# Altium schematic symbol library Schematic Diagrams.SchLib: 350 symbols (part 6 of 9)
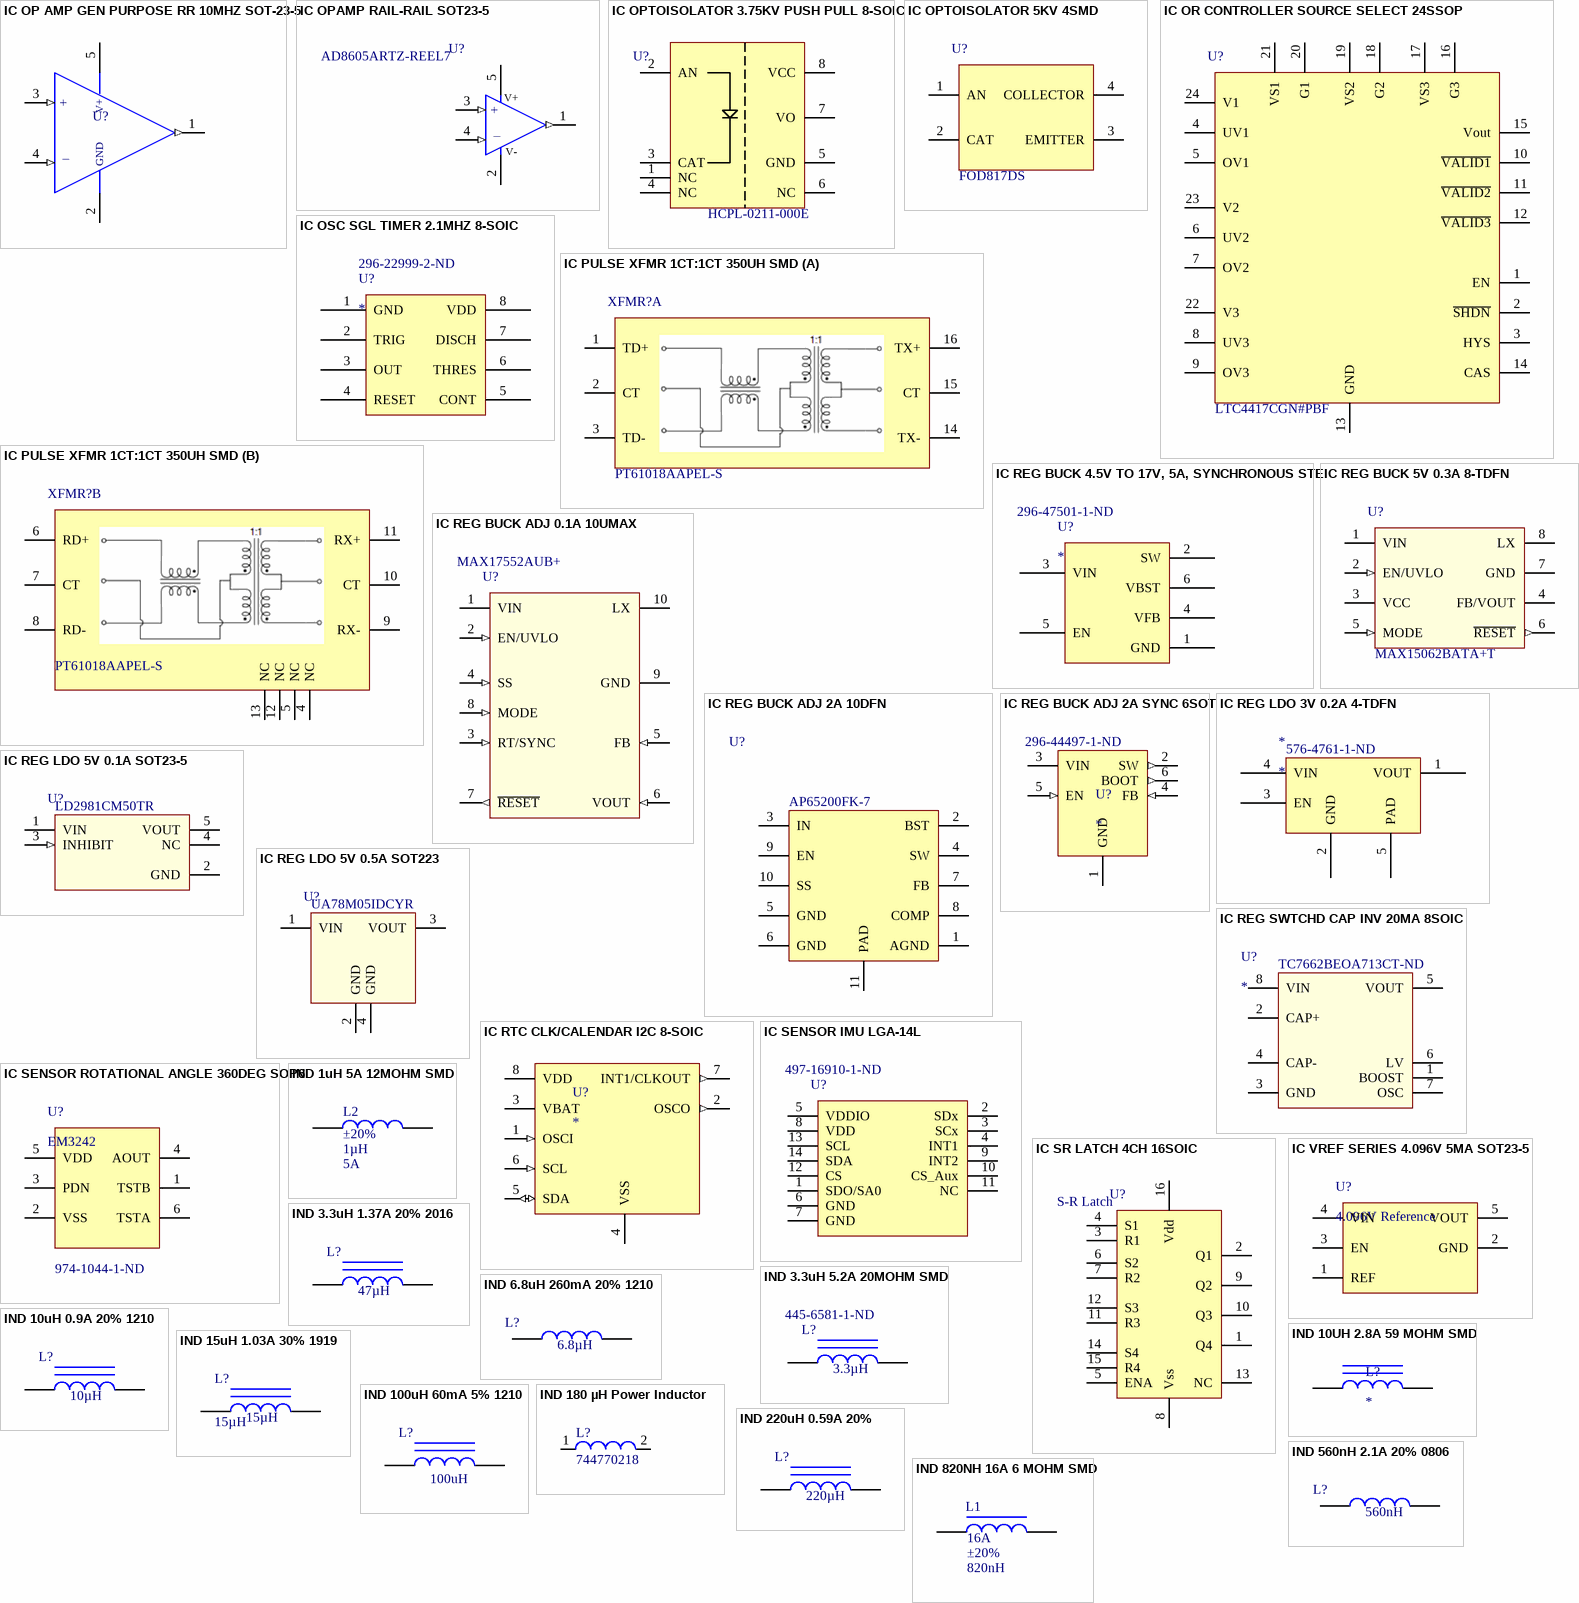
[diagram p16: symbols IC OP AMP GEN PURPOSE RR 10MHZ SOT-23-5 to IND 820NH 16A 6 MOHM SMD]

## IC SENSOR ROTATIONAL ANGLE 360DEG SOP6
designator U?, comment EM3242  Supplier Part Number 1: 974-1044-1-ND
Hall Effect Sensor Angle External Magnet, Not Included SMD (SMT) Tab; Manufacturer: AKM Semiconductor; Supplier 1: Digi-Key; Manufacturer Part Number: EM3242; Stock 1: 17913; Pricing 1: 1=4.79, 5=4.224, 10=3.731, 25=3.0272, 50=2.6752, 100=2.6048, 500=2.1824, 1000=2.0416 (USD); Mount: Surface Mount; Min Operating Temperature: -30°C; Max Operating Temperature: 85°C; Package Quantity: 5000; Termination: SMD/SMT; Sensing Method: Hall Effect; ComponentLink1URL: https://datasheet.ciiva.com/2812/em-324220ver-097-2812049.pdf; ComponentLink1Description: https://datasheet.ciiva.com/2812/em-324220ver-097-2812049.pdf; ComponentLink2URL: https://datasheet.ciiva.com/2812/em3242-2812050.pdf; ComponentLink2Description: https://datasheet.ciiva.com/2812/em3242-2812050.pdf; ComponentLink3URL: https://datasheet.ciiva.com/2812/em3242-2812051.pdf; ComponentLink3Description: https://datasheet.ciiva.com/2812/em3242-2812051.pdf
footprint IC SENSOR ROTATIONAL ANGLE 360DEG SOP6 (TSOP, 6-Leads, Body 3.60x3.00mm, Pitch 1.00mm, IPC Medium Density)
pins: 1 TSTB, 2 VSS, 3 PDN, 4 AOUT, 5 VDD, 6 TSTA

## IC SR LATCH 4CH 16SOIC
designator U?  Logic Type: S-R Latch
S-R Latch 4 Channel 1:1 IC Tri-State 16-TSSOP; Manufacturer 1: Texas Instruments; Manufacturer Part Number 1: CD4043BDR; Voltage - Supply: 3 V ~ 18 V; Delay Time - Propagation: 50ns; Current - Output High, Low: 6.8mA, 6.8mA; Supplier 1: Digi-Key; Supplier Part Number 1: 296-31496-1-ND; Packaging: Cut Tape (CT); Part Status: Active; Circuit: 1:1; Output Type: Tri-State; Operating Temperature: -55°C ~ 125°C; Mounting Type: Surface Mount; Package / Case: 16-SOIC (0.154", 3.90mm Width); Supplier Device Package: 16-SOIC; ComponentLink1URL: http://www.ti.com/lit/ds/symlink/cd4043b.pdf; ComponentLink1Description: http://www.ti.com/lit/ds/symlink/cd4043b.pdf
footprint IC, SR Latch, CD4043BDR (SR LATCH)
pins: 1 Q4, 2 Q1, 3 R1, 4 S1, 5 ENA, 6 S2, 7 R2, 8 Vss, 9 Q2, 10 Q3, 11 R3, 12 S3, 13 NC, 14 S4, 15 R4, 16 Vdd

## IC VREF SERIES 4.096V 5MA SOT23-5
designator U?, comment 4.096V Reference
Series Voltage Reference IC ±0.2% 5mA SOT-23-5; Manufacturer 1: Texas Instruments; Manufacturer Part Number 1: LM4120AIM5-4.1/NOPB; Description 1: IC VREF SERIES 4.096V SOT23-5; Output Type: Fixed; Temperature Coefficient: 50ppm/°C; Noise - 0.1Hz to 10Hz: 20µVp-p; Noise - 10Hz to 10kHz: 36µVp-p; Voltage - Input: 2 V ~ 12 V; Current - Supply: 275µA; Supplier 1: Digi-Key; Supplier Part Number 1: LM4120AIM5-4.1/NOPBCT-ND; RoHS: RoHS Compliant; Category: Integrated Circuits (ICs); Stock 1: 10567; Pricing 1: 1=2.93, 10=2.633, 100=2.1166, 500=1.73892 (CAD); Packaging: Cut Tape (CT); Part Status: Active; Reference Type: Series; Voltage - Output (Min/Fixed): 4.096V; Tolerance: ±0.2%; Operating Temperature: -40°C ~ 85°C (TA); Mounting Type: Surface Mount; Package / Case: SC-74A, SOT-753; Supplier Device Package: SOT-23-5; ComponentLink1URL: http://www.ti.com/lit/ds/symlink/lm4120.pdf; ComponentLink1Description: http://www.ti.com/lit/ds/symlink/lm4120.pdf
footprint IC OP AMP GP RR 10MHZ SOT-23-5 (SOT23, 5-Leads, Body 2.90x2.80mm, Pitch 0.95mm, IPC Medium Density)
pins: 1 REF, 2 GND, 3 EN, 4 VIN, 5 VOUT

## IND 1uH 5A 12MOHM SMD
designator L2, comment Tolerance: ±20%  Inductance: 1µH  Current Rating (Amps): 5A  (hidden comment: IND 1UH 5A 12MOHM SMD)
1µH Semi-Shielded Wirewound Inductor 5A 12mOhm Nonstandard; Manufacturer 1: Bourns Inc.; Manufacturer Part Number 1: SRN5040TA-1R0M; Current - Saturation: 7.5A; Shielding: Semi-Shielded; DC Resistance (DCR): 12mOhm; Mounting Type: Surface Mount; Package / Case: Nonstandard; Supplier 1: Digi-Key; Supplier Part Number 1: SRN5040TA-1R0MCT-ND
footprint IND 1UH 5A 12MOHM SMD (IND 1UH 5A 12MOHM SMD -Semi-shielded)
pins: 1, 2

## IND 3.3uH 1.37A 20% 2016
designator L?  Inductance: 47µH
3.3µH Shielded Wirewound Inductor 1.37A 170 mOhm Max Nonstandard; Manufacturer: TDK Corporation; Manufacturer Part Number: VLS201612CX-3R3M; Material - Core: Ferrite; Tolerance: ±20%; Current - Saturation: 1.04A; Frequency - Test: 1MHz; Supplier 1: Digi-Key; Supplier Part Number 1: 445-172964-1-ND; RoHS: RoHS Compliant; Category: Inductors, Coils, Chokes; Stock 1: 4000; Pricing 1: 1=0.43, 10=0.387, 50=0.3014, 100=0.2798, 500=0.24538, 1000=0.19803 (USD); Packaging: Cut Tape (CT); Type: Wirewound; Current Rating: 1.37A; Shielding: Shielded; DC Resistance (DCR): 170 mOhm Max; Q @ Freq: -; Frequency - Self Resonant: -; Operating Temperature: -40°C ~ 105°C; Mounting Type: Surface Mount; Package / Case: Nonstandard; Size / Dimension: 0.079" L x 0.063" W (2.00mm x 1.60mm); Height - Seated (Max): 0.047" (1.20mm); Supplier Device Package: 2016; ComponentLink1URL: http://product.tdk.com/en/catalog/datasheets/inductor_commercial_power_vls-cx_en.pdf; ComponentLink1Description: http://product.tdk.com/en/catalog/datasheets/inductor_commercial_power_vls-cx_en.pdf
footprint 445-172964-1-ND
pins: 1, 2

## IND 3.3uH 5.2A 20MOHM SMD
designator L?  Inductance: 3.3µH  Supplier Part Number 1: 445-6581-1-ND
3.3µH Shielded Wirewound Inductor 5.2A 20 mOhm Max Nonstandard; Manufacturer: TDK Corporation; Manufacturer Part Number: VLS201612CX-3R3M; Material - Core: Ferrite; Tolerance: ±20%; Current Rating: 1.37A; Current - Saturation: 1.04A; DC Resistance (DCR): 170 mOhm Max; Frequency - Test: 1MHz; Inductance Tolerance: 30%; Test Frequency: 100kHz; RoHS: RoHS Compliant; Category: Inductors, Coils, Chokes; Packaging: Cut Tape (CT); Type: Wirewound; Shielding: Shielded; Q @ Freq: -; Frequency - Self Resonant: -; Operating Temperature: -40°C ~ 105°C; Mounting Type: Surface Mount; Package / Case: Nonstandard; Size / Dimension: 0.079" L x 0.063" W (2.00mm x 1.60mm); Height - Seated (Max): 0.047" (1.20mm); Supplier Device Package: 2016; ComponentLink1URL: http://product.tdk.com/en/catalog/datasheets/inductor_commercial_power_vls-cx_en.pdf; ComponentLink1Description: http://product.tdk.com/en/catalog/datasheets/inductor_commercial_power_vls-cx_en.pdf; Supplier 1: Digi-Key; Stock 1: 8114; Pricing 1: 1 = 0.60000, 10 = 0.52700, 100 = 0.37660, 500 = 0.31636 (USD); Mount: Surface Mount; Case/Package: Nonstandard; Core Material: Ferrite; Min Operating Temperature: -40°C; Max Operating Temperature: 105°C; Package Quantity: 1; Saturation Current: 5.2A; Max DC Current: 5.2A; Termination: SMD/SMT; Composition: Wirewound; RMS Current (Irms): 5.2A; Military Standard: Not; Length: 0.315inch; Height: 4mm; Width: 8mm; Depth: 8.7mm; REACH SVHC: No SVHC; Lead Free: Lead Free; ComponentLink2URL: http://www.mouser.com/ds/2/400/nductor_commercial_power_vlp8040_en-952627.pdf; ComponentLink2Description: http://www.mouser.com/ds/2/400/nductor_commercial_power_vlp8040_en-952627.pdf
footprint IND 3.3UH 5.2A 20 MOHM SMD VLP8040 (IND 3.3UH 5.2A 20 MOHM SMD)
pins: 1, 2

## IND 6.8uH 260mA 20% 1210
designator L?  Inductance: 6.8µH
6.8µH Shielded Wirewound Inductor 260mA 204 mOhm Max 1210 (3225 Metric); Manufacturer 1: TDK Corporation; Manufacturer Part Number 1: NLFV32T-6R8M-EF; Material - Core: Ferrite; Tolerance: ±20%; Supplier 1: Digi-Key; Supplier Part Number 1: 445-15776-1-ND; Packaging: Cut Tape (CT); Part Status: Active; Type: Wirewound; Current Rating: 260mA; Current - Saturation: -; Shielding: Shielded; DC Resistance (DCR): 204 mOhm Max; Q @ Freq: -; Frequency - Self Resonant: -; Ratings: -; Operating Temperature: -40°C ~ 105°C; Mounting Type: Surface Mount; Package / Case: 1210 (3225 Metric); Supplier Device Package: 1210 (3225 Metric); Size / Dimension: 0.126" L x 0.098" W (3.20mm x 2.50mm); Height - Seated (Max): 0.094" (2.40mm); ComponentLink1URL: https://product.tdk.com/info/en/catalog/datasheets/inductor_commercial_decoupling_nlfv32-ef_en.pdf; ComponentLink1Description: https://product.tdk.com/info/en/catalog/datasheets/inductor_commercial_decoupling_nlfv32-ef_en.pdf
footprint NLFV32T-6R8M-EF/IND 6.8uH
pins: 1, 2

## IND 10uH 0.9A 20% 1210
designator L?  Inductance: 10µH
10µH Shielded Wirewound Inductor 900mA 420 mOhm Max 1210 (3225 Metric); Manufacturer: Murata Electronics North America; Manufacturer Part Number: 1277AS-H-100M=P2; Tolerance: ±20%; Current Rating: 0.9A; Current - Saturation: 1.25A; Supplier 1: Digi-Key; Supplier Part Number 1: 490-10589-1-ND; Type: Wirewound; Shielding: Shielded; DC Resistance (DCR): 420 mOhm Max; Height - Seated (Max): 0.047" (1.20mm); ComponentLink1URL: http://www.toko.co.jp/products-murata/pdf/inductors/m_dfe322512c.pdf; ComponentLink1Description: datasheet
footprint 1210
pins: 1, 2

## IND 10UH 2.8A 59 MOHM SMD
designator L?
10µH Shielded Inductor 2.8A 59 mOhm Max Nonstandard; Manufacturer: Sumida; Manufacturer Part Number: CDRH103RNP-100NC-B; Core Material: Ferrite; Tolerance: 30%; Saturation Current: 3.18A; Inductance: 10uh; DC Resistance (DCR): 59mR; Test Frequency: 100kHz; Supplier 1: Digi-Key; Stock 1: 69; Pricing 1: 1=1.53, 10=1.42, 100=1.027, 500=0.7866 (USD); Mount: Surface Mount; Case/Package: Nonstandard; Min Operating Temperature: -40°C; Max Operating Temperature: 100°C; Packaging: Tape and Reel; Package Quantity: 1000; Current Rating: 2.8A; Shielding: Shielded; Max DC Current: 2.8A; Termination: SMD/SMT; Length: 0.402inch; Height: 3.1mm; Width: 0.394inch; Height - Seated (Max): 0.122inch; Depth: 10.3mm; Radiation Hardening: No; Lead Free: Lead Free; ComponentLink1URL: http://www.mouser.com/ds/2/390/CDRH103R-523372.pdf; ComponentLink1Description: http://www.mouser.com/ds/2/390/CDRH103R-523372.pdf; ComponentLink2URL: http://www.sumida.com/products/pdf/CDRH103R.pdf; ComponentLink2Description: http://www.sumida.com/products/pdf/CDRH103R.pdf; ComponentLink3URL: http://products.sumida.com/products/pdf/CDRH103R.pdf; ComponentLink3Description: http://products.sumida.com/products/pdf/CDRH103R.pdf; Supplier Part Number 1: 308-1910-1-ND
footprint INDP100102X31N (Precision Wire Wound Inductor, 2-Leads, Body 10.00x10.20mm, IPC Medium Density)
pins: 1, 2

## IND 15uH 1.03A 30% 1919
designator L?, comment 15µH
15µH Shielded Wirewound Inductor 1.03A 220 mOhm Max 1919 (4848 Metric); Manufacturer: Bourns Inc.; Manufacturer Part Number: SRR4018-150Y; Tolerance: ±30%; Current - Saturation: 820mA; Supplier 1: Digi-Key; Supplier Part Number 1: SRR4018-150YCT-ND; Type: Wirewound; Current Rating: 1.03A; DC Resistance (DCR): 20 mOhm Max; Height - Seated (Max): 0.079" (2.00mm); Inductance: 15µH
footprint IND_BOURNS_SRR40
pins: 1, 2

## IND 100uH 60mA 5% 1210
designator L?  value 100uH
100µH Unshielded Wirewound Inductor 60mA 11 Ohm Max 1210 (3225 Metric); Manufacturer: EPCOS (TDK); Manufacturer Part Number: B82422T1104J000; Material - Core: Ferrite; Tolerance: ±5%; Q @ Freq: 20 @ 796kHz; Supplier 1: Digi-Key; RoHS: RoHS Compliant; Category: Inductors, Coils, Chokes; Stock 1: 4846; Pricing 1: 1=0.65, 10=0.568, 100=0.4062, 500=0.3412, 1000=0.27621 (CAD); Packaging: Cut Tape (CT); Part Status: Active; Type: Wirewound; Shielding: Unshielded; DC Resistance (DCR): 11 Ohm Max; Ratings: AEC-Q200; Operating Temperature: -55°C ~ 125°C; Mounting Type: Surface Mount; Package / Case: 1210 (3225 Metric); Supplier Device Package: 1210 (3225 Metric); Size / Dimension: 0.126" L x 0.098" W (3.20mm x 2.50mm); Height - Seated (Max): 0.083" (2.10mm); ComponentLink1URL: https://en.tdk.eu/inf/30/db/ind_2008/b82422t.pdf; ComponentLink1Description: https://en.tdk.eu/inf/30/db/ind_2008/b82422t.pdf; Supplier Part Number 1: 495-5646-1-ND
footprint 1210
pins: 1, 2

## IND 180 µH Power Inductor
designator L?, comment 744770218
SMD-Shielded Power Inductor WE-PD, L = 180 µH; Inductance: 180 ÂµH; ComponentLink1URL: http://www.we-online.com; DatasheetVersion: ver 5, Oct-2004; ComponentLink1Description: Manufacturer Link; ComponentLink2URL: http://www.we-online.de/katalog/media/pdf/744770218.pdf; PackageDescription: SMD Inductor, 2-Leads, Body 12.0 x 12.0 mm; PackageReference: WE-PD-XL; ComponentLink2Description: Datasheet; PackageVersion: 2004
footprint WE-PD-XL (SMD Inductor, 2-Leads, Body 12.0 x 12.0 mm)
pins: 1, 2

## IND 220uH 0.59A 20%
designator L?  Inductance: 220µH
220µH Shielded Inductor 590mA 834 mOhm Nonstandard; Manufacturer 1: Laird-Signal Integrity Products; Manufacturer Part Number 1: TYS6045221M-10; Current - Saturation: 700mA; Frequency - Self Resonant: 3.5MHz; Tolerance: ±20%; Supplier 1: Digi-Key; Supplier Part Number 1: 240-2742-1-ND; Packaging: Cut Tape (CT); Part Status: Active; Type: -; Material - Core: -; Current Rating: 590mA; Shielding: Shielded; DC Resistance (DCR): 834 mOhm; Q @ Freq: -; Ratings: AEC-Q200; Operating Temperature: -40°C ~ 125°C; Mounting Type: Surface Mount; Package / Case: Nonstandard; Supplier Device Package: -; Size / Dimension: 0.236" L x 0.236" W (6.00mm x 6.00mm); Height - Seated (Max): 0.185" (4.70mm); ComponentLink1URL: http://assets.lairdtech.com/home/brandworld/files/TYS6045221M-10.pdf; ComponentLink1Description: http://assets.lairdtech.com/home/brandworld/files/TYS6045221M-10.pdf
footprint INDP6060X23N (Precision Wire Wound Inductor, 2-Leads, Body 6.00x6.00mm, IPC Medium Density)
pins: 1, 2

## IND 560nH 2.1A 20% 0806
designator L?  Inductance: 560nH
560nH Shielded Multilayer Inductor 2.1A 80 mOhm Max 0806 (2016 Metric); Manufacturer 1: Wurth Electronics Inc.; Manufacturer Part Number 1: 74479977156; Current - Saturation: 2.3A; Frequency - Self Resonant: 24MHz; Tolerance: ±20%; Supplier 1: Digi-Key; Supplier Part Number 1: 732-9702-1-ND; Packaging: Cut Tape (CT); Part Status: Active; Type: Multilayer; Material - Core: -; Current Rating: 2.1A; Shielding: Shielded; DC Resistance (DCR): 80 mOhm Max; Q @ Freq: -; Ratings: -; Operating Temperature: -40°C ~ 125°C; Mounting Type: Surface Mount; Package / Case: 0806 (2016 Metric); Size / Dimension: 0.079" L x 0.063" W (2.00mm x 1.60mm); Height - Seated (Max): 0.024" (0.60mm); ComponentLink1URL: http://katalog.we-online.de/pbs/datasheet/74479977156.pdf; ComponentLink1Description: http://katalog.we-online.de/pbs/datasheet/74479977156.pdf
footprint INDC2116X06N (Chip Inductor, 2-Leads, Body 2.10x1.60mm, IPC Medium Density)
pins: 1, 2

## IND 820NH 16A 6 MOHM SMD
designator L1  Current Rating (Amps): 16A  Tolerance: ±20%  Inductance: 820nH  (hidden comment: IND 820NH 16A 6 MOHM SMD)
820nH Shielded Molded Inductor 16A 6mOhm Max Nonstandard; Manufacturer Part Number: ECS-MPIL0630-R82MC; Manufacturer: ECS Inc.; Supplier 1: Digi-Key; Supplier Part Number 1: XC2399CT-ND; Shielding: Shielded; DC Resistance (DCR): 6mOhm Max; Mounting Type: Surface Mount; Package / Case: Nonstandard; Size / Dimension: 0.291" L x 0.260" W (7.40mm x 6.60mm); Height - Seated (Max): 0.118" (3.00mm)
footprint IND 820NH 16A 6 MOHM SMD (820nH Shielded Molded Inductor 16A 6mOhm Max Nonstandard)
pins: 1, 2

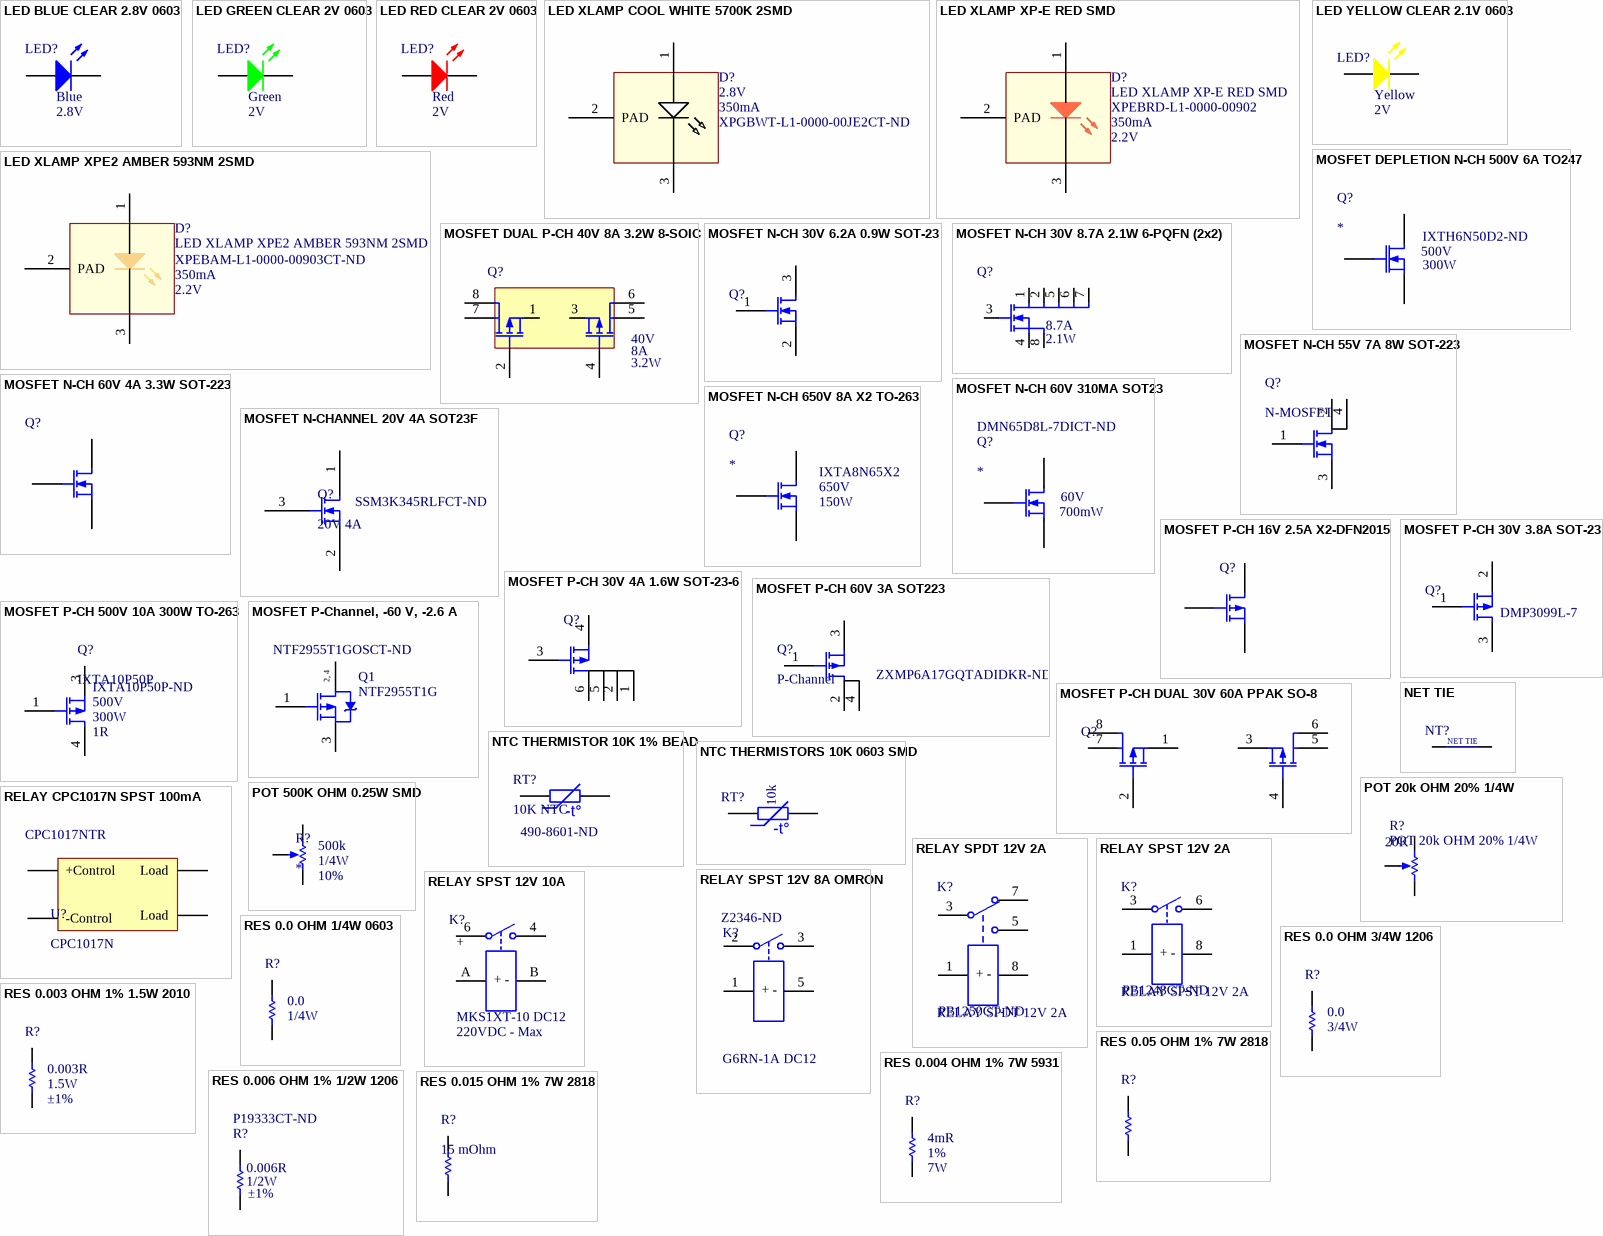
[diagram p8: symbols LED BLUE CLEAR 2.8V 0603 to RES 0.015 OHM 1% 7W 2818]

## LED BLUE CLEAR 2.8V 0603
designator LED?  Color: Blue  Voltage - Forward (Vf) (Typ): 2.8V
Blue 470nm LED Indication - Discrete 2.8V 0603 (1608 Metric); Manufacturer 1: Lite-On Inc.; Manufacturer Part Number 1: LTST-C193TBKT-5A; Lens Color: Colorless; Lens Transparency: Clear; Millicandela Rating: 15mcd; Lens Style/Size: Rectangle with Flat Top, 1.15mm x 0.80mm; Current - Test: 5mA; Viewing Angle: 130°; Wavelength - Peak: 468nm; Supplier 1: Digi-Key; Supplier Part Number 1: 160-1827-1-ND; Packaging: Cut Tape (CT); Part Status: Active; Mounting Type: Surface Mount; Wavelength - Dominant: 470nm; Package / Case: 0603 (1608 Metric); Supplier Device Package: Chip LED; Size / Dimension: 1.60mm L x 0.80mm W; Height (Max): 0.45mm; ComponentLink1URL: http://optoelectronics.liteon.com/upload/download/DS22-2004-060/P_100_LTST-C193TBKT-5A.pdf; ComponentLink1Description: http://optoelectronics.liteon.com/upload/download/DS22-2004-060/P_100_LTST-C193TBKT-5A.pdf
footprint LED_0603
pins: 1 A, 2 K

## LED GREEN CLEAR 2V 0603
designator LED?  Color: Green  Voltage - Forward (Vf) (Typ): 2V
Green 572nm LED Indication - Discrete 2V 0603 (1608 Metric); Manufacturer: Wurth Electronics Inc.; Manufacturer Part Number: 150060VS75000; Lens Color: Colorless; Lens Transparency: Clear; Millicandela Rating: 40mcd; Lens Style/Size: Rectangle with Flat Top, 1.10mm x 0.70mm; Current - Test: 20mA; Viewing Angle: 140°; Wavelength - Dominant: 570nm; Supplier 1: Digi-Key; RoHS: RoHS Compliant; Category: Optoelectronics; Stock 1: 9408; Pricing 1: 1=0.21, 100=0.1617, 500=0.13964 (CAD); Packaging: Cut Tape (CT); Part Status: Active; Mounting Type: Surface Mount; Wavelength - Peak: 572nm; Features: -; Package / Case: 0603 (1608 Metric); Supplier Device Package: 0603; Size / Dimension: 1.60mm L x 0.80mm W; Height (Max): 0.80mm; ComponentLink1URL: http://katalog.we-online.de/led/datasheet/150060VS75000.pdf; ComponentLink1Description: http://katalog.we-online.de/led/datasheet/150060VS75000.pdf; Supplier Part Number 1: 732-4980-1-ND
footprint LED_0603
pins: 1 A, 2 K

## LED RED CLEAR 2V 0603
designator LED?  Color: Red  Voltage - Forward (Vf) (Typ): 2V
Red 631nm LED Indication - Discrete 2V 0603 (1608 Metric); Manufacturer: Wurth Electronics Inc.; Manufacturer Part Number: 150060RS75000; Lens Color: Colorless; Lens Transparency: Clear; Millicandela Rating: 250mcd; Lens Style/Size: Rectangle with Flat Top, 1.10mm x 0.70mm; Current - Test: 20mA; Viewing Angle: 140°; Wavelength - Dominant: 625nm; Wavelength - Peak: 630nm; Supplier 1: Digi-Key; RoHS: RoHS Compliant; Category: Optoelectronics; Stock 1: 35521; Pricing 1: 1=0.21, 100=0.1617, 500=0.13964 (CAD); Packaging: Cut Tape (CT); Part Status: Active; Mounting Type: Surface Mount; Features: -; Package / Case: 0603 (1608 Metric); Supplier Device Package: 0603; Size / Dimension: 1.60mm L x 0.80mm W; Height (Max): 0.80mm; ComponentLink1URL: http://katalog.we-online.de/led/datasheet/150060RS75000.pdf; ComponentLink1Description: http://katalog.we-online.de/led/datasheet/150060RS75000.pdf; Supplier Part Number 1: 732-4978-1-ND
footprint LED_0603
pins: 1 A, 2 K

## LED XLAMP COOL WHITE 5700K 2SMD
designator D?  Forward Voltage: 2.8V  Test Current: 350mA  Supplier Part Number 1: XPGBWT-L1-0000-00JE2CT-ND  (hidden comment: LED XLAMP COOL WHITE 5700K 2SMD)
LED Lighting XLamp® XP-E2 White, Cool 5700K 2.9V 350mA 110° 1414 (3535 Metric); Manufacturer: Cree; Manufacturer Part Number: XPGBWT-L1-0000-00JE2; Max Current Rating: 1.5A; Viewing Angle: 115°; Thermal Resistance of Package: 4°C/W; ComponentLink1URL: http://www.mouser.com/ds/2/90/XLampXPE2-253473.pdf?src-supplier=Mouser; ComponentLink1Description: http://www.mouser.com/ds/2/90/XLampXPE2-253473.pdf?src-supplier=Mouser; ComponentLink2URL: http://www.cree.com/~/media/Files/Cree/LED%20Components%20and%20Modules/XLamp/Data%20and%20Binning/XLampXPE2.pdf?src-supplier=Digi-Key; ComponentLink2Description: http://www.cree.com/~/media/Files/Cree/LED%20Components%20and%20Modules/XLamp/Data%20and%20Binning/XLampXPE2.pdf?src-supplier=Digi-Key; ComponentLink3URL: https://www.verical.com/server-webapp/html/getDatasheet?partID=702662&src-supplier=Verical; ComponentLink3Description: https://www.verical.com/server-webapp/html/getDatasheet?partID=702662&src-supplier=Verical; Supplier 1: Digi-Key; RoHS: Yes; Stock 1: 6024; Pricing 1: 1 = 1.47000, 10 = 1.40100, 100 = 1.25340, 250 = 1.13988, 500 = 1.06762 (USD); Mount: Surface Mount; Case/Package: SMD/SMT; Color: White; Packaging: Tape and Reel; Correlated Color Temperature (CCT): 5700K; Length: 3.45mm; Width: 3.45mm; Lead Free: Lead Free
footprint LED CREE XP-E2 1414 2-SMD
pins: 1 A, 2 PAD "thermal pad", 3 K

## LED XLAMP XP-E RED SMD
designator D?  Manufacturer Part Number: XPEBRD-L1-0000-00902  Test Current: 350mA  Forward Voltage: 2.2V
LED Lighting Color XLamp® XP-E2 Red 623nm (620nm ~ 625nm) 1414 (3535 Metric); Manufacturer: Cree; Max Current Rating: 1A; Test Temperature: 25°C; Viewing Angle: 130°; Thermal Resistance of Package: 5°C/W; Supplier 1: Digi-Key; Stock 1: 1640; Pricing 1: 1 = 2.00000, 10 = 1.90000, 100 = 1.69980, 250 = 1.54584, 500 = 1.44786 (USD); Mount: Surface Mount; Case/Package: SMD/SMT; Color: Red; Packaging: Tape and Reel; Wavelength: 625nm; Lead Free: Lead Free; Supplier Part Number 1: XPEBRD-L1-0000-00902CT-ND; RoHS: Yes
footprint LED CREE XP-E2 1414 2-SMD
pins: 1 A, 2 PAD "thermal pad", 3 K

## LED XLAMP XPE2 AMBER 593NM 2SMD 
designator D?, comment LED XLAMP XPE2 AMBER 593NM 2SMD  Forward Current: 350mA  Forward Voltage: 2.2V  Supplier Part Number 1: XPEBAM-L1-0000-00903CT-ND
LED Lighting Color XLamp® XP-E2 Amber 593nm (590nm ~ 595nm) 1414 (3535 Metric); Manufacturer 1: Cree; Manufacturer Part Number 1: XPEBAM-L1-0000-00903; Color: Orange; Lens Color: Clear; Viewing Angle: 130°; Power Rating: 3W; Max Current Rating: 1A; Test Temperature: 25°C; Thermal Resistance of Package: 7°C/W; Luminous Flux: 80.6lm; Lens Style: Dome; Reverse Voltage (DC): 5V; Supplier 1: Digi-Key; Stock 1: 655; Pricing 1: 1=1.98000, 10=1.88100, 50=1.82720, 100=1.68270, 200=1.53025, 500=1.43324 (USD); RoHS: Yes; Mount: Surface Mount; Case/Package: SMD/SMT; Number of Pins: 2; Max Operating Temperature: 150°C; Package Quantity: 1000; Packaging: Tape and Reel; Wavelength: 595nm; Illumination Color: Orange; Test Current: 350mA; Length: 3.45mm; Height: 2.26mm; Width: 3.45mm; Lead Free: Lead Free; ComponentLink1URL: https://datasheet.ciiva.com/24121/xlampxpe2-24121421.pdf?src-supplier=Mouser; ComponentLink1Description: https://datasheet.ciiva.com/24121/xlampxpe2-24121421.pdf?src-supplier=Mouser; ComponentLink2URL: https://datasheet.ciiva.com/18528/xlampxpe2-18528601.pdf?src-supplier=Digi-Key; ComponentLink2Description: https://datasheet.ciiva.com/18528/xlampxpe2-18528601.pdf?src-supplier=Digi-Key
footprint LED CREE XP-E2 1414 2-SMD
pins: 1 A, 2 PAD "thermal pad", 3 K

## LED YELLOW CLEAR 2.1V 0603
designator LED?  Color: Yellow  Voltage - Forward (Vf) (Typ): 2V  (hidden comment: LED YELLOW CLEAR 2.1V 0603)
Yellow 590nm LED Indication - Discrete 2V 0603 (1608 Metric); Manufacturer: Wurth Electronics Inc.; Manufacturer Part Number: 150060YS75000; Lens Color: Colorless; Millicandela Rating: 120mcd; Lens Style/Size: Rectangle with Flat Top, 1.10mm x 0.70mm; Current - Test: 20mA; Viewing Angle: 140°; Wavelength - Peak: 595nm; Supplier 1: Digi-Key; RoHS: RoHS Compliant; Category: Optoelectronics; Stock 1: 10523; Pricing 1: 1=0.21, 100=0.1617, 500=0.13964 (CAD); Packaging: Cut Tape (CT); Part Status: Active; Lens Transparency: Clear; Mounting Type: Surface Mount; Wavelength - Dominant: 590nm; Features: -; Package / Case: 0603 (1608 Metric); Supplier Device Package: 0603; Size / Dimension: 1.60mm L x 0.80mm W; Height (Max): 0.80mm; ComponentLink1URL: http://katalog.we-online.de/led/datasheet/150060YS75000.pdf; ComponentLink1Description: http://katalog.we-online.de/led/datasheet/150060YS75000.pdf; Supplier Part Number 1: 732-4981-1-ND
footprint LED_0603
pins: 1 A, 2 K

## MOSFET DEPLETION N-CH 500V 6A TO247
designator Q?  Drain to Source Voltage (Vdss): 500V  Max Power Dissipation: 300W  Supplier Part Number 1: IXTH6N50D2-ND
N-Channel 500V 6A (Tc) 300W (Tc) Through Hole TO-247 (IXTH); Manufacturer: IXYS; Manufacturer Part Number: IXTH6N50D2; Rds On Max: 500mR; Input Capacitance: 2.8nF; Stock 1: 79; Pricing 1: 1=7.25, 10=6.521, 100=5.3613, 500=4.4919, 1000=3.9123 (USD); Mount: Through Hole; Case/Package: TO-247-3; Packaging: Rail/Tube; Package Quantity: 30; Continuous Drain Current (ID): 6A; ComponentLink1URL: https://datasheet.ciiva.com/949/ds100177bixta-tp-th6n50d2-949628.pdf; ComponentLink1Description: https://datasheet.ciiva.com/949/ds100177bixta-tp-th6n50d2-949628.pdf; ComponentLink2URL: https://datasheet.ciiva.com/26790/ixth6n50d2-26790808.pdf; ComponentLink2Description: https://datasheet.ciiva.com/26790/ixth6n50d2-26790808.pdf; Supplier 1: Digi-Key
footprint N-CH Depletion Mode TO-247-3
pins: 1 G, 2 D, 3 S

## MOSFET DUAL P-CH 40V 8A 3.2W 8-SOIC
designator Q?  Drain to Source Voltage (Vdss): 40V  Current - Continuous Drain (Id) @ 25°C: 8A  Power - Max: 3.2W  (hidden comment: *)
Mosfet Array 2 P-Channel (Dual) 40V 8A 3.2W Surface Mount 8-SO; Manufacturer 1: Vishay Siliconix; Manufacturer Part Number 1: SI4909DY-T1-GE3; Description 1: MOSFET 2P-CH 40V 8A 8SO; FET Feature: Logic Level Gate; Rds On (Max) @ Id, Vgs: 27 mOhm @ 8A, 10V; Vgs(th) (Max) @ Id: 2.5V @ 250µA; Gate Charge (Qg) (Max) @ Vgs: 63nC @ 10V; Input Capacitance (Ciss) (Max) @ Vds: 2000pF @ 20V; Supplier 1: Digi-Key; Supplier Part Number 1: SI4909DY-T1-GE3CT-ND; RoHS: RoHS Compliant; Category: Discrete Semiconductor Products; Stock 1: 11582; Pricing 1: 1=1.57, 10=1.407, 25=1.3352, 100=1.0969, 250=1.02536, 500=0.90614, 1000=0.71538 (CAD); Packaging: Cut Tape (CT); Part Status: Active; FET Type: 2 P-Channel (Dual); Operating Temperature: -55°C ~ 150°C (TJ); Mounting Type: Surface Mount; Package / Case: 8-SOIC (0.154", 3.90mm Width); Supplier Device Package: 8-SO; ComponentLink1URL: http://www.vishay.com/docs/67077/si4909dy.pdf; ComponentLink1Description: http://www.vishay.com/docs/67077/si4909dy.pdf
footprint SOIC8
pins: 1 S1, 2 G1, 3 S2, 4 G2, 5 D2, 6 D2, 7 D1, 8 D1

## MOSFET N-CH 30V 6.2A 0.9W SOT-23
designator Q?  (value not drawn)
N-Channel 30V 6.2A (Ta) 900mW (Ta) Surface Mount SOT-23; Manufacturer: Diodes; Manufacturer Part Number: DMN3023L-7; Rds On Max: 25mR; Input Capacitance: 873pF; Supplier 1: Digi-Key; Stock 1: 38246; Pricing 1: 1=0.47, 10=0.368, 100=0.2529, 500=0.1734, 1000=0.1301 (USD); Mount: Surface Mount; Case/Package: TO-236-3; Min Operating Temperature: -55°C; Max Operating Temperature: 150°C; Packaging: Tape and Reel; Drain to Source Voltage (Vdss): 30V; Continuous Drain Current (ID): 6.2A; Max Power Dissipation: 900mW; ComponentLink1URL: https://www.diodes.com/assets/Datasheets/DMN3023L.pdf; ComponentLink1Description: https://www.diodes.com/assets/Datasheets/DMN3023L.pdf; ComponentLink2URL: http://www.mouser.com/ds/2/115/DMN3023L-959533.pdf; ComponentLink2Description: http://www.mouser.com/ds/2/115/DMN3023L-959533.pdf; Supplier Part Number 1: DMN3023L-7DICT-ND
footprint MOSFET N-CH 30V 6.2A 0.9W SOT-23 (SOT23, 3-Leads, Body 2.90x2.40mm, Pitch 0.90mm, IPC Medium Density)
pins: 1 G, 2 S, 3 D

## MOSFET N-CH 30V 8.7A 2.1W 6-PQFN (2x2)
designator Q?  Current - Continuous Drain (Id) @ 25°C: 8.7A  Power Dissipation (Max): 2.1W  (hidden comment: MOSFET N-CH 30V 8.7A 2.1W 6-PQFN (2x2))
Manufacturer 1: Infineon Technologies; Manufacturer Part Number 1: IRLHS6342TRPBF; Description 1: MOSFET N-CH 30V 8.7A 2X2 PQFN; FET Type: N-Channel; Drive Voltage (Max Rds On,  Min Rds On): 2.5V, 4.5V; Vgs(th) (Max) @ Id: 1.1V @ 10µA; Gate Charge (Qg) (Max) @ Vgs: 11nC @ 4.5V; Input Capacitance (Ciss) (Max) @ Vds: 1019pF @ 25V; Vgs (Max): ±12V; Rds On (Max) @ Id, Vgs: 15.5 mOhm @ 8.5A, 4.5V; Supplier 1: Digi-Key; Supplier Part Number 1: IRLHS6342TRPBFCT-ND; RoHS: RoHS Compliant; Category: Discrete Semiconductor Products; Stock 1: 9984; Pricing 1: 1=0.79, 10=0.685, 100=0.5118, 500=0.4022, 1000=0.31079 (CAD); Packaging: Cut Tape (CT); Part Status: Active; Technology: MOSFET (Metal Oxide); Drain to Source Voltage (Vdss): 30V; FET Feature: -; Operating Temperature: -55°C ~ 150°C (TJ); Mounting Type: Surface Mount; Supplier Device Package: 6-PQFN (2x2); Package / Case: 6-PowerVDFN; ComponentLink1URL: http://www.infineon.com/dgdl/irlhs6342pbf.pdf?fileId=5546d462533600a401535663b52625ad; ComponentLink1Description: http://www.infineon.com/dgdl/irlhs6342pbf.pdf?fileId=5546d462533600a401535663b52625ad
footprint MOSFET N-CH 30V 12A 2mmx2mm PQFN (PQFN, 6-Leads, Body 2.00x2.00mm, Pitch 0.65mm/0.50mm, Thermal Pad 1.00x1.20mm, IPC Medium Density)
pins: 1 D, 2 D, 3 G, 4 S, 5 D, 6 D, 7 D, 8 S

## MOSFET N-CH 55V 7A 8W SOT-223
designator Q?, comment N-MOSFET
N-Channel 55V 7A (Tc) 8W (Tc) Surface Mount SOT-223; Manufacture: Nexperia USA Inc.; Manufacture Part Number: BUK9880-55A/CUX; Vgs: +-15V; Rds On (Max) @ Id, Vgs: 73 mOhm @ 8A, 10V; Drain to Source Voltage (Vdss): 55V; Supplier 1: Digi-Key; Supplier Part Number 1: 1727-2230-1-ND
footprint BUK9880 N-MOSFET 7A (SOT223, 4-Leads, Body 6.50x7.00mm (avg), Pitch 2.30mm, IPC Medium Density)
pins: 1 G, 2 D, 3 S, 4

## MOSFET N-CH 60V 4A 3.3W SOT-223
designator Q?
N-Channel 60V 4A (Tc) 3.3W (Tc) Surface Mount SOT-223; Manufacturer 1: STMicroelectronics; Manufacturer Part Number 1: STN3NF06L; Current - Continuous Drain (Id) @ 25°C: 4A (Tc); Drive Voltage (Max Rds On,  Min Rds On): 5V, 10V; Vgs(th) (Max) @ Id: 2.8V @ 250µA; Gate Charge (Qg) (Max) @ Vgs: 9nC @ 5V; Input Capacitance (Ciss) (Max) @ Vds: 340pF @ 25V; Vgs (Max): ±16V; Rds On (Max) @ Id, Vgs: 100 mOhm @ 1.5A, 10V; Supplier 1: Digi-Key; Supplier Part Number 1: 497-3177-1-ND; Packaging: Cut Tape (CT); Part Status: Active; FET Type: N-Channel; Technology: MOSFET (Metal Oxide); Drain to Source Voltage (Vdss): 60V; FET Feature: -; Power Dissipation (Max): 3.3W (Tc); Operating Temperature: -55°C ~ 150°C (TJ); Mounting Type: Surface Mount; Supplier Device Package: SOT-223; Package / Case: TO-261-4, TO-261AA; ComponentLink1URL: http://www.st.com/content/ccc/resource/technical/document/datasheet/b1/52/93/f0/a9/a9/40/d7/CD00002430.pdf/files/CD00002430.pdf/jcr:content/translations/en.CD00002430.pdf; ComponentLink1Description: http://www.st.com/content/ccc/resource/technical/document/datasheet/b1/52/93/f0/a9/a9/40/d7/CD00002430.pdf/files/CD00002430.pdf/jcr:content/translations/en.CD00002430.pdf
footprint N-CH MOSFET SOT-23 (SI2318CDS-T1-GE3CT-ND)
pins: 1 G, 2 S, 3 D

## MOSFET N-CH 60V 310MA SOT23
designator Q?  Max Power Dissipation: 700mW  Drain to Source Voltage (Vdss): 60V  Supplier Part Number 1: DMN65D8L-7DICT-ND
N-Channel 60V 310mA (Ta) 370mW (Ta) Surface Mount SOT-23; Manufacturer: Diodes; Manufacturer Part Number: DMN6140L-7; Rds On Max: 140mR; Input Capacitance: 315pF; Continuous Drain Current (ID): 1.6A; Threshold Voltage: 3V; Element Configuration: Single; Number of Channels: 1; Gate to Source Voltage (Vgs): 20V; Fall Time: 2.7ns; Rise Time: 3.6ns; Turn-Off Delay Time: 16.3ns; Turn-On Delay Time: 2.6ns; Power Dissipation: 540mW; FET Type: 1 N-Channel; Mount: Surface Mount; Case/Package: TO-236-3; Number of Pins: 3; Weight: 0.000282oz; Min Operating Temperature: -55°C; Max Operating Temperature: 150°C; Package Quantity: 3000; Packaging: Tape and Reel; Drain to Source Resistance: 140mR; REACH SVHC: No SVHC; Lead Free: Lead Free; ComponentLink1URL: https://datasheet.ciiva.com/29747/dmn6140l-29747654.pdf; ComponentLink1Description: https://datasheet.ciiva.com/29747/dmn6140l-29747654.pdf; ComponentLink2URL: https://datasheet.ciiva.com/29747/dmn6140l-29747660.pdf; ComponentLink2Description: https://datasheet.ciiva.com/29747/dmn6140l-29747660.pdf; Supplier 1: Digi-Key; Stock 1: 0; Drain to Source Breakdown Voltage: 60V; Number of Elements: 1; Length: 3mm; Height: 1.1mm; Width: 1.4mm; ComponentLink3URL: https://datasheet.ciiva.com/6371/dmn65d8l-6371124.pdf; ComponentLink3Description: https://datasheet.ciiva.com/6371/dmn65d8l-6371124.pdf; ComponentLink4URL: https://datasheet.ciiva.com/6371/dmn65d8l-6371126.pdf; ComponentLink4Description: https://datasheet.ciiva.com/6371/dmn65d8l-6371126.pdf; ComponentLink5URL: https://datasheet.ciiva.com/13058/dmn65d8l-219098-13058455.pdf; ComponentLink5Description: https://datasheet.ciiva.com/13058/dmn65d8l-219098-13058455.pdf; ComponentLink6URL: https://datasheet.ciiva.com/6371/dmn65d8l-6371128.pdf; ComponentLink6Description: https://datasheet.ciiva.com/6371/dmn65d8l-6371128.pdf
footprint SOT23 (SOT23, 3-Leads, Body 2.9x1.3mm, Pitch 0.95mm, Lead Span 2.3mm - Reverse Pinning, IPC Medium Density)
pins: 1 D, 2 S, 3 G

## MOSFET N-CH 650V 8A X2 TO-263
designator Q?  Max Power Dissipation: 150W  Drain to Source Voltage (Vdss): 650V  Manufacturer Part Number: IXTA8N65X2
N-Channel 650V 8A (Tc) 150W (Tc) Surface Mount TO-263; Manufacturer: IXYS; Rds On Max: 500mR; Input Capacitance: 800pF; Supplier 1: Digi-Key; Stock 1: 69; Pricing 1: 1=2.85, 10=2.576, 100=2.07, 500=1.61, 1000=1.334 (USD); Mount: Surface Mount; Case/Package: TO-263-3; Min Operating Temperature: -55°C; Max Operating Temperature: 150°C; Packaging: Rail/Tube; Continuous Drain Current (ID): 8A; ComponentLink1URL: http://www.mouser.com/ds/2/205/DS100649B(IXTY-TA-TP8N65X2)-1132259.pdf; ComponentLink1Description: http://www.mouser.com/ds/2/205/DS100649B(IXTY-TA-TP8N65X2)-1132259.pdf; ComponentLink2URL: http://ixapps.ixys.com/DataSheet/DS100649B(IXTY-TA-TP8N65X2).pdf; ComponentLink2Description: http://ixapps.ixys.com/DataSheet/DS100649B(IXTY-TA-TP8N65X2).pdf; Supplier Part Number 1: IXTA8N65X2-ND
footprint P-CH MOSFET 500V 10A 300W TO-263
pins: 1 G, 3 S, 4 D

## MOSFET N-CHANNEL 20V 4A SOT23F
designator Q?, comment 20V 4A  Supplier Part Number 1: SSM3K345RLFCT-ND
N-Channel 20V 4A (Ta) 1W (Ta) Surface Mount SOT-23F; Supplier 1: Digi-Key; ComponentLink1Description: datasheet; ComponentLink1URL: https://toshiba.semicon-storage.com/info/docget.jsp?did=55842&prodName=SSM3K345R
footprint SOT23 (SOT23, 3-Leads, Body 2.9x1.3mm, Pitch 0.95mm, Lead Span 2.3mm - Reverse Pinning, IPC Medium Density)
pins: 1, 2, 3

## MOSFET P-CH 16V 2.5A X2-DFN2015
designator Q?
P-Channel 16V 2.5A (Ta) 650mW (Ta) Surface Mount X2-DFN2015-3; Manufacturer 1: Diodes Incorporated; Manufacturer Part Number 1: DMG3415UFY4Q-7; Drive Voltage (Max Rds On,  Min Rds On): 1.8V, 4.5V; Vgs(th) (Max) @ Id: 1V @ 250µA; Gate Charge (Qg) (Max) @ Vgs: 10nC @ 4.5V; Input Capacitance (Ciss) (Max) @ Vds: 282pF @ 10V; Vgs (Max): ±8V; Rds On (Max) @ Id, Vgs: 39 mOhm @ 4A, 4.5V; Supplier 1: Digi-Key; Supplier Part Number 1: DMG3415UFY4Q-7DICT-ND; Packaging: Cut Tape (CT); Part Status: Active; FET Type: P-Channel; Technology: MOSFET (Metal Oxide); Drain to Source Voltage (Vdss): 16V; Current - Continuous Drain (Id) @ 25°C: 2.5A (Ta); FET Feature: -; Power Dissipation (Max): 650mW (Ta); Operating Temperature: -55°C ~ 150°C (TJ); Mounting Type: Surface Mount; Supplier Device Package: X2-DFN2015-3; Package / Case: 3-XFDFN; ComponentLink1URL: https://www.diodes.com/assets/Datasheets/DMG3415UFY4Q.pdf; ComponentLink1Description: https://www.diodes.com/assets/Datasheets/DMG3415UFY4Q.pdf
footprint DFN86P197X40-3N (DFN, 3-Leads, Body 1.47x1.97mm, Pitch 0.86mm, IPC Medium Density)
pins: 1 G, 2 S, 3 D

## MOSFET P-CH 30V 3.8A SOT-23
designator Q?  Manufacturer Part Number: DMP3099L-7  (hidden comment: MOSFET P-CH 30V 3.8A SOT-23)
P-Channel 30V 3.8A (Ta) 1.08W (Ta) Surface Mount SOT-23; Manufacturer: Diodes Incorporated; Drive Voltage (Max Rds On,  Min Rds On): 4.5V, 10V; Rds On (Max) @ Id, Vgs: 65 mOhm @ 3.8A, 10V; Vgs(th) (Max) @ Id: 2.1V @ 250µA; Vgs (Max): ±20V; Supplier 1: Digi-Key; RoHS: RoHS Compliant; Category: Discrete Semiconductor Products; Stock 1: 108364; Pricing 1: 1=0.59, 10=0.429, 100=0.2522, 500=0.14282, 1000=0.10949 (CAD); Packaging: Cut Tape (CT); Part Status: Active; FET Type: P-Channel; Technology: MOSFET (Metal Oxide); Current - Continuous Drain (Id) @ 25°C: 3.8A (Ta); FET Feature: -; Power Dissipation (Max): 1.08W (Ta); Operating Temperature: -55°C ~ 150°C (TJ); Mounting Type: Surface Mount; Supplier Device Package: SOT-23; Package / Case: TO-236-3, SC-59, SOT-23-3; ComponentLink1URL: https://www.diodes.com/assets/Datasheets/DMP3099L.pdf; ComponentLink1Description: https://www.diodes.com/assets/Datasheets/DMP3099L.pdf; Supplier Part Number 1: DMP3099L-7DICT-ND
footprint MOSFET P-CH 30V 3.8A SOT-23 (SOT23, 3-Leads, Body 2.85x2.40mm, Pitch 0.90mm, IPC Medium Density)
pins: 1 G, 2 S, 3 D

## MOSFET P-CH 30V 4A 1.6W SOT-23-6
designator Q?
P-Channel 30V 4A (Ta) 1.6W (Ta) Surface Mount SOT-23-6; Manufacturer 1: STMicroelectronics; Manufacturer Part Number 1: STT4P3LLH6; Current - Continuous Drain (Id) @ 25°C: 4A (Ta); Drive Voltage (Max Rds On,  Min Rds On): 4.5V, 10V; Vgs(th) (Max) @ Id: 2.5V @ 250µA; Gate Charge (Qg) (Max) @ Vgs: 6nC @ 4.5V; Input Capacitance (Ciss) (Max) @ Vds: 639pF @ 25V; Vgs (Max): ±20V; Rds On (Max) @ Id, Vgs: 56 mOhm @ 2A, 10V; Supplier 1: Digi-Key; Supplier Part Number 1: 497-15521-1-ND; Packaging: Cut Tape (CT); Part Status: Active; FET Type: P-Channel; Technology: MOSFET (Metal Oxide); Drain to Source Voltage (Vdss): 30V; FET Feature: -; Power Dissipation (Max): 1.6W (Ta); Operating Temperature: 150°C (TJ); Mounting Type: Surface Mount; Supplier Device Package: SOT-23-6; Package / Case: SOT-23-6; ComponentLink1URL: http://www.st.com/content/ccc/resource/technical/document/datasheet/13/e4/a1/65/8b/79/44/73/DM00084060.pdf/files/DM00084060.pdf/jcr:content/translations/en.DM00084060.pdf; ComponentLink1Description: http://www.st.com/content/ccc/resource/technical/document/datasheet/13/e4/a1/65/8b/79/44/73/DM00084060.pdf/files/DM00084060.pdf/jcr:content/translations/en.DM00084060.pdf
simulation model PMOS (MOSFET-P)
footprint P-MOSFET (SOT23, 6-Leads, Body 2.93x2.80mm, Pitch 0.95mm, IPC Medium Density)
pins: 1 D, 2 D, 3 G, 4 S, 5 D, 6 D

## MOSFET P-CH 60V 3A SOT223
designator Q?, comment P-Channel  Supplier Part Number 1: ZXMP6A17GQTADIDKR-ND
P-Channel 60V 3A (Ta) 2W (Ta) Surface Mount SOT-223; Manufacturer: Diodes; Manufacturer Part Number: ZXMP6A17GQTA; Rise Time: 3.4ns; Rds On Max: 125mR; Input Capacitance: 637pF; Turn-On Delay Time: 2.6ns; Turn-Off Delay Time: 26.2ns; Fall Time: 11.3ns; Gate to Source Voltage (Vgs): 20V; Element Configuration: Single; Number of Channels: 1; Drain to Source Breakdown Voltage: -60V; Drain to Source Resistance: 190mR; Supplier 1: Digi-Key; Stock 1: 815; Pricing 1: 1=0.9, 10=0.788, 100=0.6076, 500=0.45012 (USD); Mount: Surface Mount; Case/Package: TO-261-4; Number of Pins: 3; Weight: 0.000282oz; Min Operating Temperature: -55°C; Max Operating Temperature: 150°C; Package Quantity: 1; Packaging: Tape and Reel; Drain to Source Voltage (Vdss): 60V; Continuous Drain Current (ID): 3A; Max Power Dissipation: 2W; Radiation Hardening: No; Lead Free: Lead Free; REACH SVHC: No SVHC; ComponentLink1URL: https://datasheet.ciiva.com/29747/zxmp6a17gq-29747441.pdf; ComponentLink1Description: https://datasheet.ciiva.com/29747/zxmp6a17gq-29747441.pdf; ComponentLink2URL: https://datasheet.ciiva.com/29747/zxmp6a17gq-29747434.pdf; ComponentLink2Description: https://datasheet.ciiva.com/29747/zxmp6a17gq-29747434.pdf; ComponentLink3URL: https://datasheet.ciiva.com/29747/zxmp6a17gq-29747438.pdf; ComponentLink3Description: https://datasheet.ciiva.com/29747/zxmp6a17gq-29747438.pdf
footprint SOT223_N (SOT223, 4-Leads, Body 6.5x3.5mm, Pitch 2.3mm, Lead Span 7mm, IPC Medium Density)
pins: 1 G, 2 D, 3 S, 4 D

## MOSFET P-CH 500V 10A 300W TO-263
designator Q?, comment IXTA10P50P  Max Power Dissipation: 300W  Rds On Max: 1R  Drain to Source Voltage (Vdss): 500V  Supplier Part Number 1: IXTA10P50P-ND
P-Channel 500V 10A (Tc) 300W (Tc) Surface Mount TO-263 (IXTA); Manufacturer: IXYS; Input Capacitance: 2.84nF; Rise Time: 28ns; Fall Time: 44ns; Turn-Off Delay Time: 52ns; Number of Elements: 1; Element Configuration: Single; Drain to Source Breakdown Voltage: -500V; Gate to Source Voltage (Vgs): 20V; Supplier 1: Digi-Key; Manufacturer Part Number: IXTA10P50P; Stock 1: 2142; Pricing 1: 1=5.96, 10=5.319, 100=4.3614, 500=3.53166, 1000=2.9785 (USD); Mount: Surface Mount; Case/Package: TO-263; Min Operating Temperature: -55°C; Max Operating Temperature: 150°C; Package Quantity: 50; Packaging: Rail/Tube; Continuous Drain Current (ID): 10A; Drain to Source Resistance: 1R; Power Dissipation: 300W; On-State Resistance: 1R; Radiation Hardening: No; Lead Free: Lead Free; ComponentLink1URL: https://datasheet.ciiva.com/15203/getdatasheetpartid-371166-15203275.pdf; ComponentLink1Description: https://datasheet.ciiva.com/15203/getdatasheetpartid-371166-15203275.pdf
footprint P-CH MOSFET 500V 10A 300W TO-263
pins: 1 G, 3 S, 4 D

## MOSFET P-CH DUAL 30V 60A PPAK SO-8
designator Q?  (value not drawn)
Mosfet Array 2 P-Channel (Dual) 30V 60A 46W Surface Mount PowerPAK® SO-8 Dual; Manufacturer 1: Vishay Siliconix; Manufacturer Part Number 1: SI7997DP-T1-GE3; Description 1: MOSFET 2P-CH 30V 60A PPAK SO-8; FET Feature: Standard; Rds On (Max) @ Id, Vgs: 5.5 mOhm @ 20A, 10V; Vgs(th) (Max) @ Id: 2.2V @ 250µA; Gate Charge (Qg) (Max) @ Vgs: 160nC @ 10V; Input Capacitance (Ciss) (Max) @ Vds: 6200pF @ 15V; Supplier 1: Digi-Key; Supplier Part Number 1: SI7997DP-T1-GE3CT-ND; RoHS: RoHS Compliant; Category: Discrete Semiconductor Products; Stock 1: 2272; Pricing 1: 1=3.34, 10=3.004, 25=2.834, 100=2.4145, 250=2.2672, 500=1.98378, 1000=1.64369 (CAD); Packaging: Cut Tape (CT); Part Status: Active; Drain to Source Voltage (Vdss): 30V; Current - Continuous Drain (Id) @ 25°C: 60A; Power - Max: 46W; Operating Temperature: -55°C ~ 150°C (TJ); Mounting Type: Surface Mount; Package / Case: PowerPAK® SO-8 Dual; Supplier Device Package: PowerPAK® SO-8 Dual; ComponentLink1URL: http://www.vishay.com/docs/66719/si7997dp.pdf; ComponentLink1Description: http://www.vishay.com/docs/66719/si7997dp.pdf; FET Type: 2 P-Channel (Dual)
footprint MOSFET 2P-CH 30V 60A PPAK SO-8 (Mosfet Array 2 P-Channel (Dual) 30V 60A 46W Surface Mount PowerPAK® SO-8 Dual)
pins: 1 S1, 2 G1, 3 S2, 4 G2, 5 D2, 6 D2, 7 D1, 8 D1

## MOSFET P-Channel, -60 V, -2.6 A
designator Q1, comment NTF2955T1G  Supplier Part Number 1: NTF2955T1GOSCT-ND
Power MOSFET, -60 V, -2.6 A, Single P-Channel, 4-Pin SOT-223, Pb-Free, Tape and Reel; Manufacturer: On Semiconductor; Ciss Typ (pF): 492; Coss Typ (pF): 165; VGS(th) Max (V): 4; VGS Max (V): 20; ID Max (A): 2.6; Crss Typ (pF): 50; Channel Polarity: P Channel; V(BR)DSS Min (V): 60; Qrr Typ (nC): 0.139; Mounting Technology: Surface Mount; RoHS: Pb-Free; ComponentLink3URL: http://www.onsemi.com/pub_link/Collateral/318E-04.PDF; Packing: Tape and Reel; ComponentLink1URL: http://www.onsemi.com/; PackageReference: SOT-223-4-318E-04; Configuration: Single; PartNumber: NTF2955T1G; ComponentLink3Description: Package Specification; DatasheetVersion: Rev. 6; ComponentLink2Description: Datasheet; ComponentLink2URL: http://www.onsemi.com/pub_link/Collateral/NTF2955-D.PDF; PackageDescription: 4-Pin Small Outline Transistor, Body 6.5 x 3.5 mm, Pitch 2.3 mm; Package Type: SOT-223-4 / TO-261-4; ComponentLink1Description: Manufacturer URL; PackageVersion: Rev. N, 08/2009; Supplier 1: Digi-Key
footprint ONSC-SOT-223-4-318E-04_V (SOT223, 4-Leads, Body 6.5x3.5mm, Pitch 2.3mm)
pins: 1 G, 2 D, 3 S, 4 D
text: 2, 4

## NET TIE
designator NT?  (value not drawn)  (net tie, no BOM)
NET TIE, 0.25MM
footprint NET TIE 0.25MM
pins: 1, 2

## NTC THERMISTOR 10K 1% BEAD
designator RT?, comment 10K NTC  Supplier Part Number 1: 490-8601-ND
NTC Thermistor 10k Bead; Manufacturer: Murata Electronics North America; Manufacturer Part Number: NXRT15XH103FA1B030; Resistance Tolerance: ±1%; B25/50: 3380K; B25/85: 3434K; B25/100: 3455K; Supplier 1: Digi-Key; RoHS: RoHS Compliant; Category: Sensors, Transducers; Stock 1: 25017; Pricing 1: 1=0.96, 5=0.91, 10=0.792, 25=0.696, 50=0.5784, 100=0.4925, 500=0.42834, 1000=0.3748, 5000=0.33197 (CAD); Packaging: Bulk; Part Status: Active; Resistance in Ohms @ 25°C: 10k; B Value Tolerance: ±1%; B0/50: -; B25/75: -; Operating Temperature: -40°C ~ 125°C; Length - Lead Wire: -; Mounting Type: Through Hole; Package / Case: Bead; ComponentLink1URL: https://www.murata.com/~/media/webrenewal/support/library/catalog/products/thermistor/ntc/r44e.ashx; ComponentLink1Description: https://www.murata.com/~/media/webrenewal/support/library/catalog/products/thermistor/ntc/r44e.ashx
footprint NTC THERMISTOR BEAD (NTC Thermistor 10k Bead)
pins: 1, 2
text: -t°

## NTC THERMISTORS 10K 0603 SMD
designator RT?  Resistance in Ohms @ 25°C: 10k  (hidden comment: *)
NTC THERMISTORS 10KOHM 1608 SMD; Manufacturer: Murata Electronics North America; Manufacturer Part Number: NCU18XH103F60RB; Resistance Tolerance: ±1%; B25/50: 3380K; B25/85: 3434K; B25/100: 3455K; Supplier 1: Digi-Key; RoHS: Request Inventory Verification; Category: Sensors, Transducers; Stock 1: 0; Pricing 1: 4000=0.06771, 8000=0.05974, 12000=0.05775, 20000=0.05675, 28000=0.05576 (CAD); Packaging: Tape & Reel (TR); Part Status: Active; B Value Tolerance: ±1%; B0/50: -; B25/75: -; Operating Temperature: -40°C ~ 125°C; Length - Lead Wire: -; Mounting Type: Surface Mount; Package / Case: 0603 (1608 Metric); ComponentLink1URL: https://www.murata.com/~/media/webrenewal/support/library/catalog/products/thermistor/r03e.ashx; ComponentLink1Description: https://www.murata.com/~/media/webrenewal/support/library/catalog/products/thermistor/r03e.ashx; Supplier Part Number 1: 490-16279-2-ND
footprint RES, 0603 (Chip Resistor, 2-Leads, Body 1.60x0.80mm, IPC Medium Density)
pins: 1, 2
text: -t°

## POT 20k OHM 20% 1/4W
designator R?  value 20K
20k Ohm 0.25W, 1/4W Gull Wing Surface Mount Trimmer Potentiometer; Manufacture: TT Electronics/BI; Manufacture Part Number: 23BR20KLFTR; Adjustment Type: Top; Turns: 1; Power: 1/4W; Tolerence: 20%; Supplier 1: Digi-Key; Supplier Part Number 1: 987-1016-1-ND
simulation model POT (Potentiometer)
footprint 20K POT
pins: 1 TOP, 2 TAP, 3 BOT
1 alternate drawing of the same symbol

## POT 500K OHM 0.25W SMD
designator R?  Tolerance: 10%  Max Power Dissipation: 1/4W  Resistance: 500k
500 kOhms 0.25W, 1/4W J Lead Surface Mount Trimmer Potentiometer Cermet 11 Turn Top Adjustment; Manufacturer: Nidec Copal; Manufacturer Part Number: SM-42TW504; Number of Turns: 11; Temperature Coefficient: 100ppm/°C; Supplier 1: Digi-Key; Stock 1: 1022; Pricing 1: 1=3.4, 10=2.979, 25=2.66, 50=2.5004, 100=2.4472 (USD); Mount: Surface Mount; Min Operating Temperature: -65°C; Max Operating Temperature: 150°C; Package Quantity: 1; Packaging: Tape and Reel; Composition: Cermet; Length: 0.189inch; Height: 0.201inch; Width: 0.138inch; Radiation Hardening: No; ComponentLink1URL: https://datasheet.ciiva.com/2158/sm-42sm-43-2158256.pdf; ComponentLink1Description: https://datasheet.ciiva.com/2158/sm-42sm-43-2158256.pdf; ComponentLink2URL: https://datasheet.ciiva.com/2158/sm-42sm-43-2158257.pdf; ComponentLink2Description: https://datasheet.ciiva.com/2158/sm-42sm-43-2158257.pdf; ComponentLink3URL: https://datasheet.ciiva.com/2158/sm-42sm-43-2158255.pdf; ComponentLink3Description: https://datasheet.ciiva.com/2158/sm-42sm-43-2158255.pdf; Supplier Part Number 1: SM-42TW504CT-ND
footprint POT TRIMMER 500k (TRIMMER 500K OHM 0.25W SMD)
pins: 1 TOP, 2 TAP, 3 BOT

## RELAY CPC1017N SPST 100mA
designator U?, comment CPC1017N  Manufacturer Part Number: CPC1017NTR
Relay Solid-State SPST-NO 4-SOP; Manufacturer: IXYS Integrated Circuits Division; Circuit: SPST-NO (1 Form A); Output Type: AC, DC; On-State Resistance (Max): 16 Ohm; Voltage - Input: 1.2VDC; Voltage - Load: 0 ~ 60 V; Supplier 1: Digi-Key; RoHS: RoHS Compliant; Category: Relays; Stock 1: 86929; Pricing 1: 1=1.76, 10=1.561, 25=1.41, 100=1.2334, 250=1.0824, 500=0.95658, 1000=0.75519 (CAD); Packaging: Cut Tape (CT); Part Status: Active; Mounting Type: Surface Mount; Termination Style: Gull Wing; Package / Case: 4-SOP (0.150", 3.81mm); Supplier Device Package: 4-SOP (2.54mm); Relay Type: Relay; ComponentLink1URL: http://www.ixysic.com/home/pdfs.nsf/www/CPC1017N.pdf/$file/CPC1017N.pdf; ComponentLink1Description: http://www.ixysic.com/home/pdfs.nsf/www/CPC1017N.pdf/$file/CPC1017N.pdf; Supplier Part Number 1: CLA233CT-ND
footprint RELAY SOP4
pins: 1 +Control, 2 -Control, 3 Load, 4 Load

## RELAY SPDT 12V 2A
designator K?  Supplier Part Number 1: PB1250CT-ND
Telecom Relay SPDT (1 Form C) Surface Mount; Manufacturer Part Number: 1462042-9; Coil Type: Non Latching; Switching Voltage: 250VAC, 220VDC; Operate Time: 3ms; Coil Power: 140 mW; Contact Form: SPDT; Coil Voltage: 12V; Supplier 1: Digi-Key
simulation model SPDTRELAY (Spice Subcircuit)
footprint RELAY_SPDT
pins: 1 +, 3, 5, 7, 8 -
text: + -

## RELAY SPST 12V 2A
designator K?  Supplier Part Number 1: PB1248CT-ND
Telecom Relay SPST-NO (1 Form A) Surface Mount; Manufacture: TE Connectivity Potter & Brumfield Relays; Manufacture Part Number: 1462041-3; Coil Type: 11.7mA; Coil Voltage: 12VDC; Switching Voltage: 250VAC, 220VDC - Max; Operate Time: 3ms; Contact Form: SPST-NO; Contact Rating: 2A; Supplier 1: Digi-Key
simulation model SPSTRELAY (Spice Subcircuit)
footprint RELAY-SPST
pins: 1 + "Coil +", 3, 6, 8 - "Coil -"
text: + -

## RELAY SPST 12V 8A OMRON
designator K?, comment G6RN-1A DC12  Supplier Part Number 1: Z2346-ND
Omron Relay SPST (1 Form A) Through Hole; Coil Type: Non Latching; Coil Voltage: 12V; Switching Voltage: 250VAC, 30VDC - Max; Operate Time: 15ms; Coil Power: 220 mW; Contact Form: SPST; Manufacturer Part Number: G6RN-1A DC12; Supplier 1: Digi-Key; ComponentLink1Description: Datasheet; ComponentLink1URL: https://omronfs.omron.com/en_US/ecb/products/pdf/en-g6rn.pdf
footprint RELAY SPST 8A 12VDC
pins: 1 + "Coil +", 2, 3, 5 - "Coil -"
text: + -

## RELAY SPST 12V 10A
designator K?  Manufacturer Part Number: MKS1XT-10 DC12  Switching Voltage: 220VDC - Max  (hidden comment: *)
General Purpose Relay SPST-NO (1 Form A) 12VDC Coil Socketable; Manufacturer: Omron Automation and Safety; Coil Type: Non Latching; Turn On Voltage (Max): 9.6 VDC; Turn Off Voltage (Min): 1.8 VDC; Coil Power: 1.5 W; Supplier 1: Digi-Key; RoHS: RoHS Compliant; Category: Relays; Stock 1: 4; Pricing 1: 1=45.24, 10=42.981, 25=40.7192, 50=38.4572, 100=36.1949, 250=33.93272 (CAD); Packaging: Tray; Part Status: Active; Relay Type: General Purpose; Contact Form: SPST-NO (1 Form A); Features: -; Mounting Type: Socketable; Termination Style: Plug In; Operating Temperature: -40°C ~ 60°C; Contact Material: Silver Tin Indium (AgSnIn); ComponentLink1URL: http://www.ia.omron.com/data_pdf/cat/mk-s(x)_j175-e1_5_2_csm2141.pdf; ComponentLink1Description: http://www.ia.omron.com/data_pdf/cat/mk-s(x)_j175-e1_5_2_csm2141.pdf; Supplier Part Number 1: Z2956-ND; Coil Voltage: 12VDC
footprint RELAY SOCKET P7M-06P
pins: 4, 6, A + "Coil +", B - "Coil -"
text: + -